# EAGLE library part 5STOMPBOARD (library EurorackModularParts)
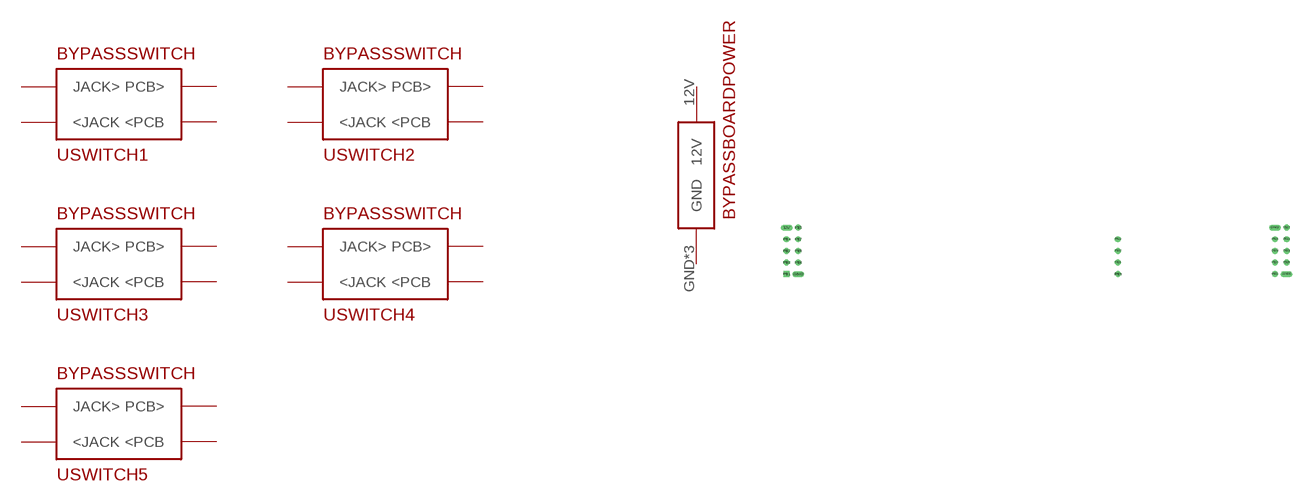
[diagram p25: symbol with the pads of BYPASSBOARD; footprint BYPASSBOARD]

Designator prefix -; gates SWITCH1=BYPASSSWITCH SWITCH2=BYPASSSWITCH SWITCH3=BYPASSSWITCH SWITCH4=BYPASSSWITCH SWITCH5=BYPASSSWITCH G$6=SWITCHBOARDPWER

## 5STOMPBOARD  [BYPASSBOARD]
12V  G$6:12V
GND  G$6:GND
GND2  G$6:GND
GND3  G$6:GND
P$1  SWITCH1:<JACK
P$2  SWITCH1:<PCB
P$3  SWITCH1:JACK>
P$4  SWITCH1:PCB>
P$5  SWITCH2:<JACK
P$6  SWITCH2:<PCB
P$7  SWITCH2:JACK>
P$8  SWITCH2:PCB>
P$9  SWITCH3:<JACK
P$10  SWITCH3:<PCB
P$11  SWITCH3:JACK>
P$12  SWITCH3:PCB>
P$13  SWITCH4:<JACK
P$14  SWITCH4:<PCB
P$15  SWITCH4:JACK>
P$16  SWITCH4:PCB>
P$17  SWITCH5:<JACK
P$18  SWITCH5:<PCB
P$19  SWITCH5:JACK>
P$20  SWITCH5:PCB>

## Footprint BYPASSBOARD (pad centres in mm)
drill 0.8 long: 12V 31.75,15.24; GND 34.29,5.08; GND2 138.43,15.24; GND3 140.97,5.08
drill 0.8 square: P$1 31.75,5.08
drill 0.8: P$2 31.75,10.16; P$3 31.75,7.62; P$4 31.75,12.7; P$5 34.29,15.24; P$6 34.29,10.16; P$7 34.29,12.7; P$8 34.29,7.62; P$9 104.14,5.08; P$10 104.14,10.16; P$11 104.14,7.62; P$12 104.14,12.7; P$13 138.43,5.08; P$14 138.43,10.16; P$15 138.43,7.62; P$16 138.43,12.7; P$17 140.97,15.24; P$18 140.97,10.16; P$19 140.97,12.7; P$20 140.97,7.62